# Altium footprint library MHQ1005P2N7CT000.PcbLib: 3 footprints
Each footprint in its own frame and in the unit in brackets; x right, y up, seen from the top. Pads: shape width x height; smd on the part's side, far side on the other; paste and mask are expansions set on the pad; w line width, h text height; cw(c..) or ccw(c..) is an arc to the next point about the centre after c.
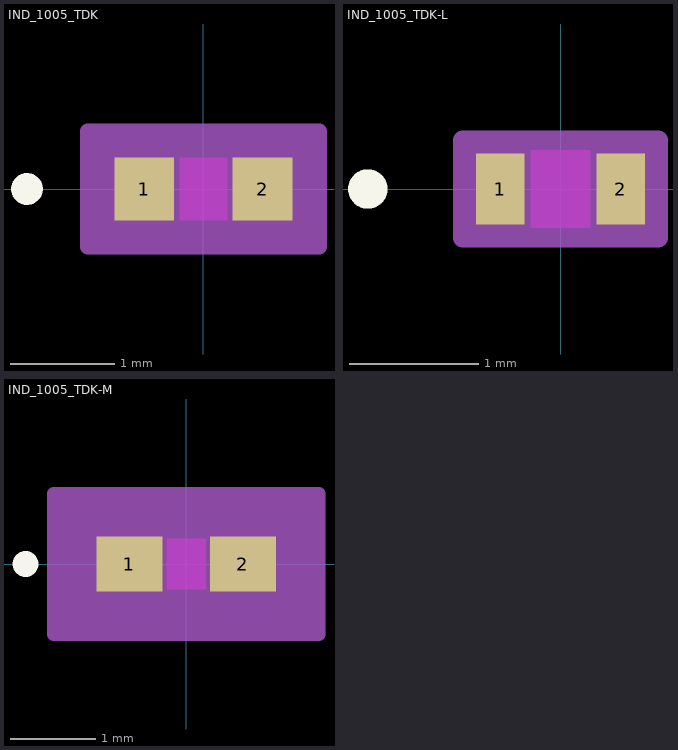
[diagram p0: the footprints below, top view; thin cyan lines are the x and y axes]

## IND_1005_TDK [mm]
pads (2):
  rect 0.576x0.6 smd paste+0 mask+0: 1(-0.568,0) 2(0.568,0)
Top Layer keep-out:
  region: -0.229,-0.249 -0.229,0.249 0.229,0.249 0.229,-0.249
Top Overlay:
  circle w0.152: c-1.694,0 r0.076
  text ".Designator" at -3.492,-0.635 h1.27
Keep-Out Layer:
  region: -0.229,-0.3 -0.229,0.3 0.229,0.3 0.229,-0.3
Mechanical 13:
  circle w0.025: c-0.441,0 r0.076
  lines w0.025: -0.5,-0.3 -0.5,0.3 ; -0.5,-0.3 -0.28,-0.3 -0.28,0.3 -0.5,0.3 ; -0.5,-0.3 0.5,-0.3 ; -0.5,-0.3 -0.5,0.3 ; -0.5,0.3 0.5,0.3 ; 0.5,-0.3 0.28,-0.3 0.28,0.3 0.5,0.3 ; 0.5,-0.3 0.5,0.3 ; 0.5,-0.3 0.5,0.3
  text ".Designator" at -3.492,-0.635 h1.27
Mechanical 15:
  region: 1.11,-0.554 -1.11,-0.554 -1.11,0.554 1.11,0.554
  lines w0.152: -1.11,-0.554 -1.11,0.554 1.11,0.554 1.11,-0.554 -1.11,-0.554
3D body "IND_1005_TDK.step": height 0.5, standoff 0, extent -0.5,-0.3 0.5,0.3

## IND_1005_TDK-L [mm]
pads (2):
  rect 0.372x0.549 smd paste+0 mask+0: 1(-0.466,0) 2(0.466,0)
Top Layer keep-out:
  region: -0.229,-0.249 -0.229,0.249 0.229,0.249 0.229,-0.249
Top Overlay:
  circle w0.152: c-1.491,0 r0.076
  text ".Designator" at -3.492,-0.635 h1.27
Keep-Out Layer:
  region: -0.229,-0.3 -0.229,0.3 0.229,0.3 0.229,-0.3
Mechanical 13:
  circle w0.025: c-0.339,0 r0.076
  lines w0.025: -0.5,-0.3 -0.5,0.3 ; -0.5,-0.3 -0.28,-0.3 -0.28,0.3 -0.5,0.3 ; -0.5,-0.3 0.5,-0.3 ; -0.5,-0.3 -0.5,0.3 ; -0.5,0.3 0.5,0.3 ; 0.5,-0.3 0.28,-0.3 0.28,0.3 0.5,0.3 ; 0.5,-0.3 0.5,0.3 ; 0.5,-0.3 0.5,0.3
  text ".Designator" at -3.492,-0.635 h1.27
Mechanical 15:
  region: 0.754,-0.376 -0.754,-0.376 -0.754,0.376 0.754,0.376
  lines w0.152: -0.754,-0.376 -0.754,0.376 0.754,0.376 0.754,-0.376 -0.754,-0.376
3D body "IND_1005_TDK.step": height 0.5, standoff 0, extent -0.5,-0.3 0.5,0.3

## IND_1005_TDK-M [mm]
pads (2):
  rect 0.779x0.651 smd paste+0 mask+0: 1(-0.669,0) 2(0.669,0)
Top Layer keep-out:
  region: -0.229,-0.249 -0.229,0.249 0.229,0.249 0.229,-0.249
Top Overlay:
  circle w0.152: c-1.897,0 r0.076
  text ".Designator" at -3.492,-0.635 h1.27
Keep-Out Layer:
  region: -0.229,-0.3 -0.229,0.3 0.229,0.3 0.229,-0.3
Mechanical 13:
  circle w0.025: c-0.542,0 r0.076
  lines w0.025: -0.5,-0.3 -0.5,0.3 ; -0.5,-0.3 -0.28,-0.3 -0.28,0.3 -0.5,0.3 ; -0.5,-0.3 0.5,-0.3 ; -0.5,-0.3 -0.5,0.3 ; -0.5,0.3 0.5,0.3 ; 0.5,-0.3 0.28,-0.3 0.28,0.3 0.5,0.3 ; 0.5,-0.3 0.5,0.3 ; 0.5,-0.3 0.5,0.3
  text ".Designator" at -3.492,-0.635 h1.27
Mechanical 15:
  region: 1.567,-0.833 -1.567,-0.833 -1.567,0.833 1.567,0.833
  lines w0.152: -1.567,-0.833 -1.567,0.833 1.567,0.833 1.567,-0.833 -1.567,-0.833
3D body "IND_1005_TDK.step": height 0.5, standoff 0, extent -0.5,-0.3 0.5,0.3